# Altium footprint library RES.PCBLIB: 55 footprints (part 2 of 4)
Each footprint in its own frame and in the unit in brackets; x right, y up, seen from the top. Pads: shape width x height; smd on the part's side, far side on the other; paste and mask are expansions set on the pad; w line width, h text height; cw(c..) or ccw(c..) is an arc to the next point about the centre after c.
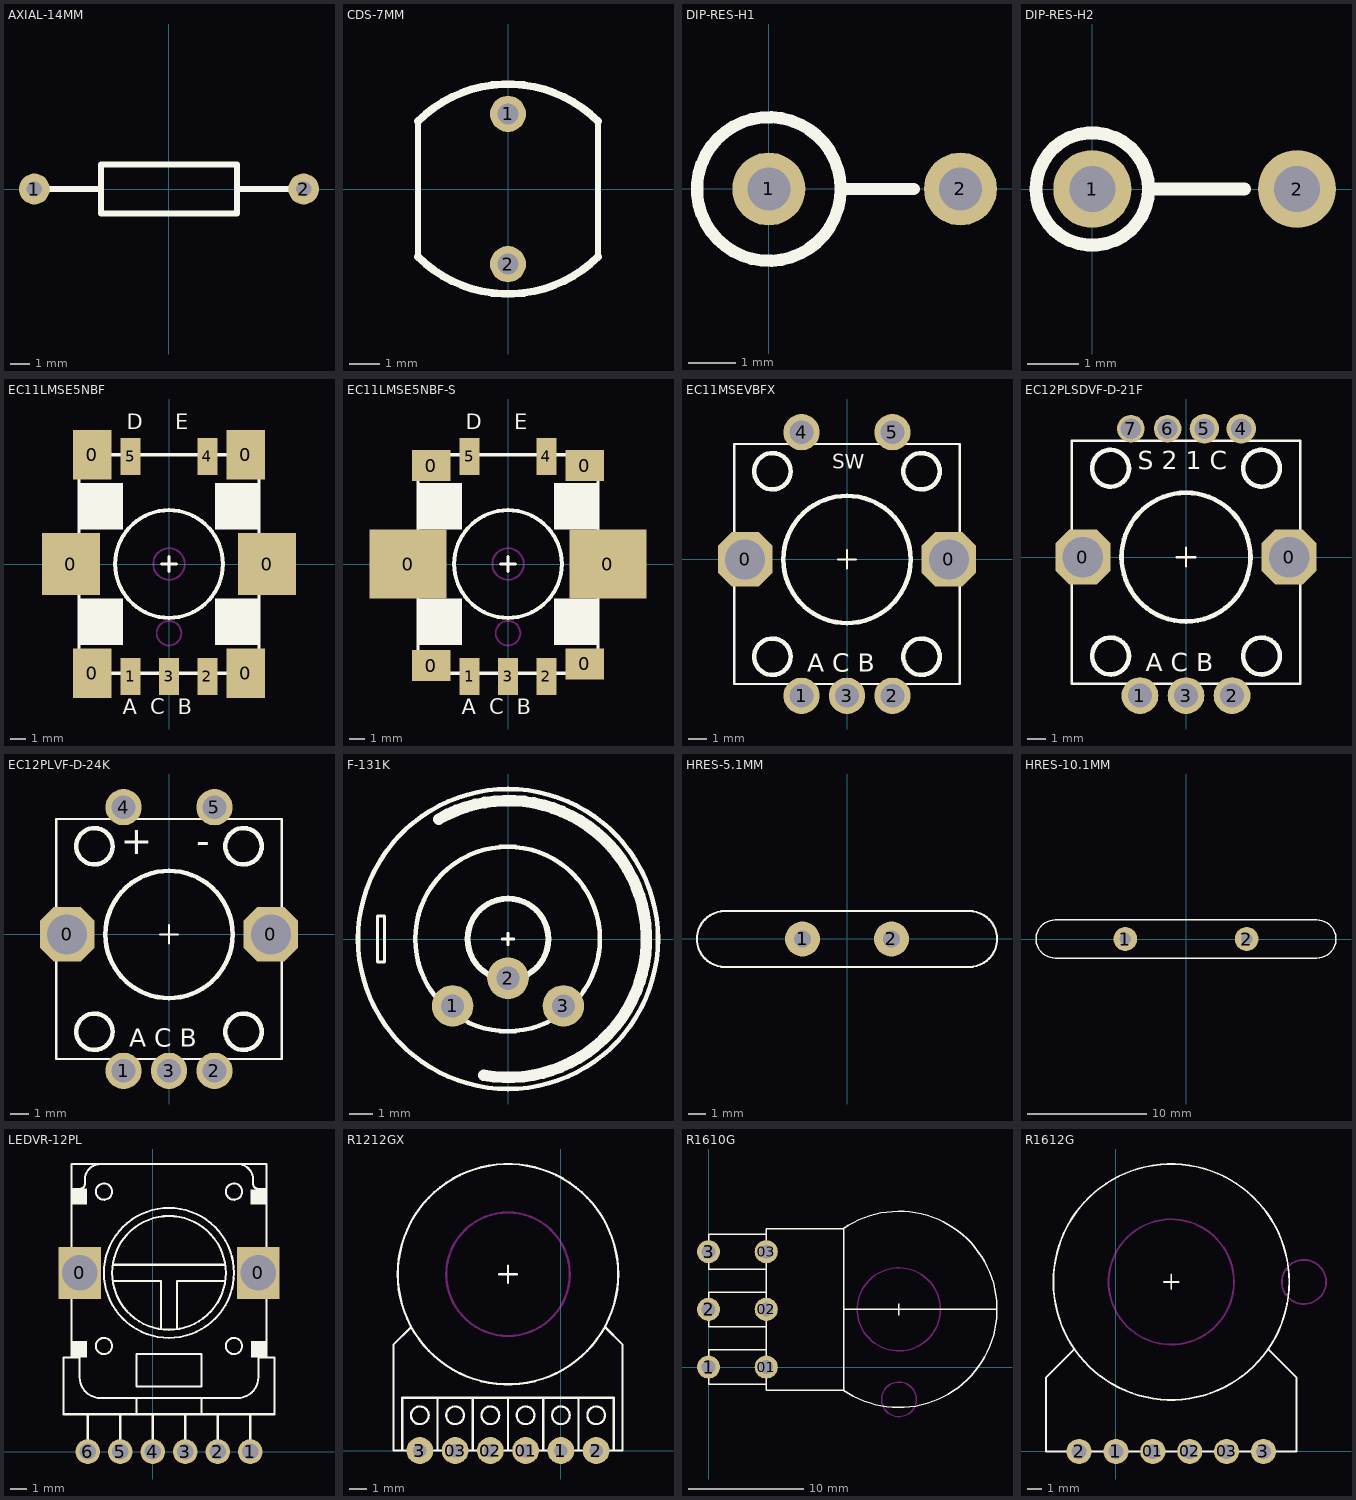
[diagram p1: the footprints below, top view; thin cyan lines are the x and y axes]

## AXIAL-14MM [mm]
pads (2):
  round 1.6 hole 0.8: 1(-7,0) 2(7,0)
TopOverlay:
  lines w0.305: -7,0 -3.53,0 ; 3.53,0 7,0 ; -3.53,-1.27 -3.53,1.27 3.53,1.27 3.53,-1.27 -3.53,-1.27

## CDS-7MM [mm]
pads (2):
  round 1.2 hole 0.7: 1(0,2.5) 2(0,-2.5)
TopOverlay:
  lines w0.2: -3,-2.25 -3,2.25 ; 3,-2.25 3,2.25
  lines w0.254: -3,-2.25 ccw(c0,0.75) 3,-2.25 ; -3,2.25 cw(c0,-0.75) 3,2.25

## DIP-RES-H1 [mil]
pads (2):
  round 60 hole 35.43: 1(0,0) 2(157.48,0)
TopOverlay:
  circle w10: c0,0 r59.06
  lines w10: 59.06,0 119.05,0

## DIP-RES-H2 [mil]
pads (2):
  round 60 hole 35.43: 1(0,0) 2(157.48,0)
TopOverlay:
  circle w10: c0,0 r43.31
  lines w10: 43.31,0 117,0

## EC11LMSE5NBF [mm]
pads (11):
  rect 3.75x4 smd: 0(-6.375,0) 0(6.375,0)
  rect 2.5x3.2 smd: 0(-5,-7.1) 0(-5,7.1) 0(5,-7.1) 0(5,7.1)
  rect 1.3x2.4 smd: 1(-2.5,-7.3) 2(2.5,-7.3) 3(0,-7.3) 4(2.5,7) 5(-2.5,7)
TopOverlay:
  circle w0.254: c0,0 r3.5
  rectangle: -5.85,2.25 -3,5.25
  rectangle: 3,2.25 5.85,5.25
  rectangle: -5.85,-5.25 -3,-2.25
  rectangle: 3,-5.25 5.75,-2.25
  lines w0.2: -5.85,-1.5 -7.5,-1.5 -7.5,1.5 -5.85,1.5 ; -0.5,0 0.5,0 ; 0,-0.5 0,0.5 ; 5.85,-1.5 7.5,-1.5 7.5,1.5 5.85,1.5 ; -5.85,-7.1 5.85,-7.1 5.85,7.1 -5.85,7.1 -5.85,-7.1
  text "A  C  B" at -3,-9.75 h1
  text "D     E" at -2.75,8.75 h1
KeepOutLayer:
  circle w0.127: c0,0 r1.025
  circle w0.127: c0,-4.5 r0.8

## EC11LMSE5NBF-S [mm]
pads (11):
  rect 5x4.5 smd: 0(-6.5,0) 0(6.5,0)
  rect 2.5x2 smd: 0(-5,-6.6) 0(-5,6.4) 0(5,-6.5) 0(5,6.4)
  rect 1.3x2.4 smd: 1(-2.5,-7.3) 2(2.5,-7.3) 3(0,-7.3) 4(2.5,7) 5(-2.5,7)
TopOverlay:
  circle w0.254: c0,0 r3.5
  rectangle: -5.85,2.25 -3,5.25
  rectangle: 3,2.25 5.85,5.25
  rectangle: -5.85,-5.25 -3,-2.25
  rectangle: 3,-5.25 5.75,-2.25
  lines w0.2: -5.85,-1.5 -7.5,-1.5 -7.5,1.5 -5.85,1.5 ; -0.5,0 0.5,0 ; 0,-0.5 0,0.5 ; 5.85,-1.5 7.5,-1.5 7.5,1.5 5.85,1.5 ; -5.85,-7.1 5.85,-7.1 5.85,7.1 -5.85,7.1 -5.85,-7.1
  text "A  C  B" at -3,-9.75 h1
  text "D     E" at -2.75,8.75 h1
KeepOutLayer:
  circle w0.127: c0,0 r1.025
  circle w0.127: c0,-4.5 r0.8

## EC11MSEVBFX [mm]
pads (7):
  oct 3x3 hole 2.2: 0(-5.6,0) 0(5.6,0)
  round 2 hole 1.3: 1(-2.5,-7.5) 2(2.5,-7.5) 3(0,-7.5) 4(-2.5,7) 5(2.5,7)
TopOverlay:
  circle w0.254: c0,0 r3.5
  circle w0.254: c-4.1,-5.35 r1
  circle w0.254: c4.1,-5.35 r1
  circle w0.254: c4.1,4.85 r1
  circle w0.254: c-4.1,4.85 r1
  lines w0.127: -0.5,0 0.5,0 ; 0,-0.5 0,0.5 ; -6.2,-6.85 -6.2,6.35 6.2,6.35 6.2,-6.85 -6.2,-6.85
  text "SW" at -0.8,5 h0.8
  text "A C B" at -2.175,-6.175 h1

## EC12PLSDVF-D-21F [mm]
pads (9):
  oct 3x3 hole 2.2: 0(-5.6,0) 0(5.6,0)
  round 2 hole 1.3: 1(-2.5,-7.525) 2(2.5,-7.525) 3(0,-7.525)
  round 1.6 hole 1.1: 4(3,6.975) 5(1,6.975)
  round 1.5 hole 1.1: 6(-1,6.975) 7(-3,6.975)
TopOverlay:
  circle w0.254: c-4.1,4.825 r1
  circle w0.254: c4.1,4.825 r1
  circle w0.254: c4.1,-5.375 r1
  circle w0.254: c-4.1,-5.375 r1
  circle w0.254: c0,0 r3.5
  lines w0.127: -0.5,0 0.5,0 ; 0,-0.5 0,0.5 ; -6.2,-6.875 6.2,-6.875 6.2,6.325 -6.2,6.325 -6.2,-6.875
  text "A C B" at -2.175,-6.2 h1
  text "S 2 1 C" at -2.625,4.775 h1

## EC12PLVF-D-24K [mm]
pads (7):
  oct 3x3 hole 2.2: 0(-5.6,0) 0(5.6,0)
  round 2 hole 1.3: 1(-2.5,-7.5) 2(2.5,-7.5) 3(0,-7.5) 4(-2.5,7) 5(2.5,7)
TopOverlay:
  circle w0.254: c0,0 r3.5
  circle w0.254: c-4.1,-5.35 r1
  circle w0.254: c4.1,-5.35 r1
  circle w0.254: c4.1,4.85 r1
  circle w0.254: c-4.1,4.85 r1
  lines w0.127: -0.5,0 0.5,0 ; 0,-0.5 0,0.5 ; -6.2,-6.85 -6.2,6.35 6.2,6.35 6.2,-6.85 -6.2,-6.85
  text "+" at -2.65,4.4 h1.52
  text "-" at 1.5,4.4 h1.52
  text "A C B" at -2.175,-6.175 h1

## F-131K [mm]
pads (3):
  round 1.8 hole 1: 1(-2.4,-2.9) 2(0,-1.7) 3(2.4,-2.9)
TopOverlay:
  circle w0.254: c0,0 r1.75
  circle w0.2: c0,0 r6.5
  circle w0.2: c-0.017,0 r4
  lines w0.127: -0.25,0 0.25,0 ; 0,-0.25 0,0.25 ; -5.65,-1 -5.35,-1 -5.35,1 -5.65,1 -5.65,-1
  lines w0.5: -3,5.196 cw(c0,0) -1.042,-5.909

## HRES-5.1MM [mm]
pads (2):
  round 2 hole 1: 1(-2.55,0) 2(2.55,0)
TopOverlay:
  lines w0.127: -7,-1.6 cw(c-7,0) -7,1.6 7,1.6 cw(c7,0) 7,-1.6 -7,-1.6

## HRES-10.1MM [mm]
pads (2):
  round 2 hole 1: 1(-5.1,0) 2(5.1,0)
TopOverlay:
  lines w0.127: -11,-1.6 cw(c-11,0) -11,1.6 11,1.6 cw(c11,0) 11,-1.6 -11,-1.6

## LEDVR-12PL [mm]
pads (8):
  rect 2.6x3.2 hole 2.2: 0(-4.5,11) 0(6.5,11)
  round 1.524 hole 1: 1(6,0) 2(4,0) 3(2,0) 4(0,0) 5(-2,0) 6(-4,0)
TopOverlay:
  circle w0.127: c5,6.5 r0.5
  circle w0.127: c-3,6.5 r0.5
  circle w0.127: c5,16 r0.5
  circle w0.127: c-3,16 r0.5
  circle w0.127: c4.549,17.7 r0
  circle w0.127: c-4.5,16.171 r0
  circle w0.127: c-3.548,17.7 r0
  circle w0.127: c0.998,11 r4
  circle w0.127: c0.998,11 r3.5
  rectangle: 6.048,5.8 7,6.8
  rectangle: -4.998,5.8 -4.046,6.8
  region: 6,16.146 6,15.194 7,15.194 7,16.146
  rectangle: -5,15.196 -4.048,16.196
  lines w0.127: -5,5.8 -5,11 -5,17.7 7,17.7 7,11 7,5.8 ; -5,16.171 -4.5,16.171 ccw(c-4.5,16.496) -4.175,16.496 -4.175,16.744 cw(c-3.224,16.744) -3.224,17.696 ; -4,0 -4,2.3 ; -2.4,10.5 0.5,10.5 0.5,7.6 ; -2.4,11.5 4.4,11.5 ; -2,0 -2,2.3 ; -1,2.3 -1,3.3 ; 0,0 0,2.3 ; 1.5,7.6 1.5,10.5 4.4,10.5 ; 2,0 2,2.3 ; 3,2.3 3,3.3 ; 4,0 4,2.3 ; 5.219,17.7 cw(c5.219,16.749) 6.171,16.749 6.171,16.5 ccw(c6.5,16.5) 6.5,16.171 7,16.171 ; 6,0 6,2.3 ; -5.5,2.3 -5.5,5.8 -4.5,5.8 -4.5,4.57 ccw(c-3.23,4.57) -3.23,3.3 5.23,3.3 ccw(c5.23,4.57) 6.5,4.57 6.5,5.8 7.5,5.8 7.5,2.3 -5.5,2.3 ; -1,4 -1,6 3,6 3,4 -1,4
KeepOutLayer:
  lines w0.127: -5.498,9.946 -5.498,12.046 -3.498,12.046 -3.498,9.946 -5.498,9.946 ; 5.498,9.946 5.498,12.046 7.498,12.046 7.498,9.946 5.498,9.946

## R1212GX [mil]
pads (6):
  round 60 hole 30: 01(-78.74,0) 1(0,0) 02(-157.48,0) 2(78.74,0) 3(-314.96,0) 03(-236.22,0)
TopOverlay:
  circle w5: c78.74,78.74 r19.68
  circle w5: c0,78.74 r19.68
  circle w5: c-78.74,78.74 r19.68
  circle w5: c-157.48,78.74 r19.68
  circle w5: c-236.22,78.74 r19.68
  circle w5: c-314.96,78.74 r19.68
  circle w5: c-118.11,393.7 r246.06
  lines w5: -354.33,0 -354.33,118.11 118.11,118.11 118.11,0.17 ; -334.76,275.48 -374.02,236.22 -374.02,0 137.8,0 137.8,236.22 98.26,275.76 ; -275.59,0 -275.59,118.11 ; -196.85,0 -196.85,118.11 ; -137.8,393.7 -98.43,393.7 ; -118.11,0 -118.11,118.11 ; -118.11,374.02 -118.11,413.39 ; -39.37,0 -39.37,118.11 ; 39.37,0 39.37,118.11
KeepOutLayer:
  circle w5: c-118.11,393.7 r137.8

## R1610G [mm]
pads (6):
  round 2 hole 1.2: 1(0,0) 01(5,0) 2(0,5) 02(5,5) 3(0,10) 03(5,10)
TopOverlay:
  lines w0.127: 5,-1.5 0,-1.5 0,1.5 5,1.5 ; 5,3.5 0,3.5 0,6.5 5,6.5 ; 5,8.5 0,8.5 0,11.5 5,11.5 ; 11.689,-2.008 ccw(c16.5,5) 11.689,12.008 ; 11.7,5 25,5 ; 16.5,4.5 16.5,5.5 ; 5,-2 11.7,-2 11.7,12 5,12 5,-2
KeepOutLayer:
  circle w0.127: c16.5,-2.8 r1.5
  circle w0.127: c16.5,5 r3.6

## R1612G [mm]
pads (6):
  round 1.7 hole 1: 1(0,0) 01(2.5,0) 2(-2.5,0) 02(5,0) 03(7.5,0) 3(10,0)
TopOverlay:
  circle w0.127: c3.75,11.5 r8
  lines w0.127: -2.822,6.928 -4.75,5 -4.75,0 12.25,0 12.25,5 10.323,6.927 ; 3.25,11.5 4.25,11.5 ; 3.75,11 3.75,12
KeepOutLayer:
  circle w0.127: c3.75,11.5 r4.25
  circle w0.127: c12.75,11.5 r1.5